# EAGLE library part BLUE2 (library JoesCustom)
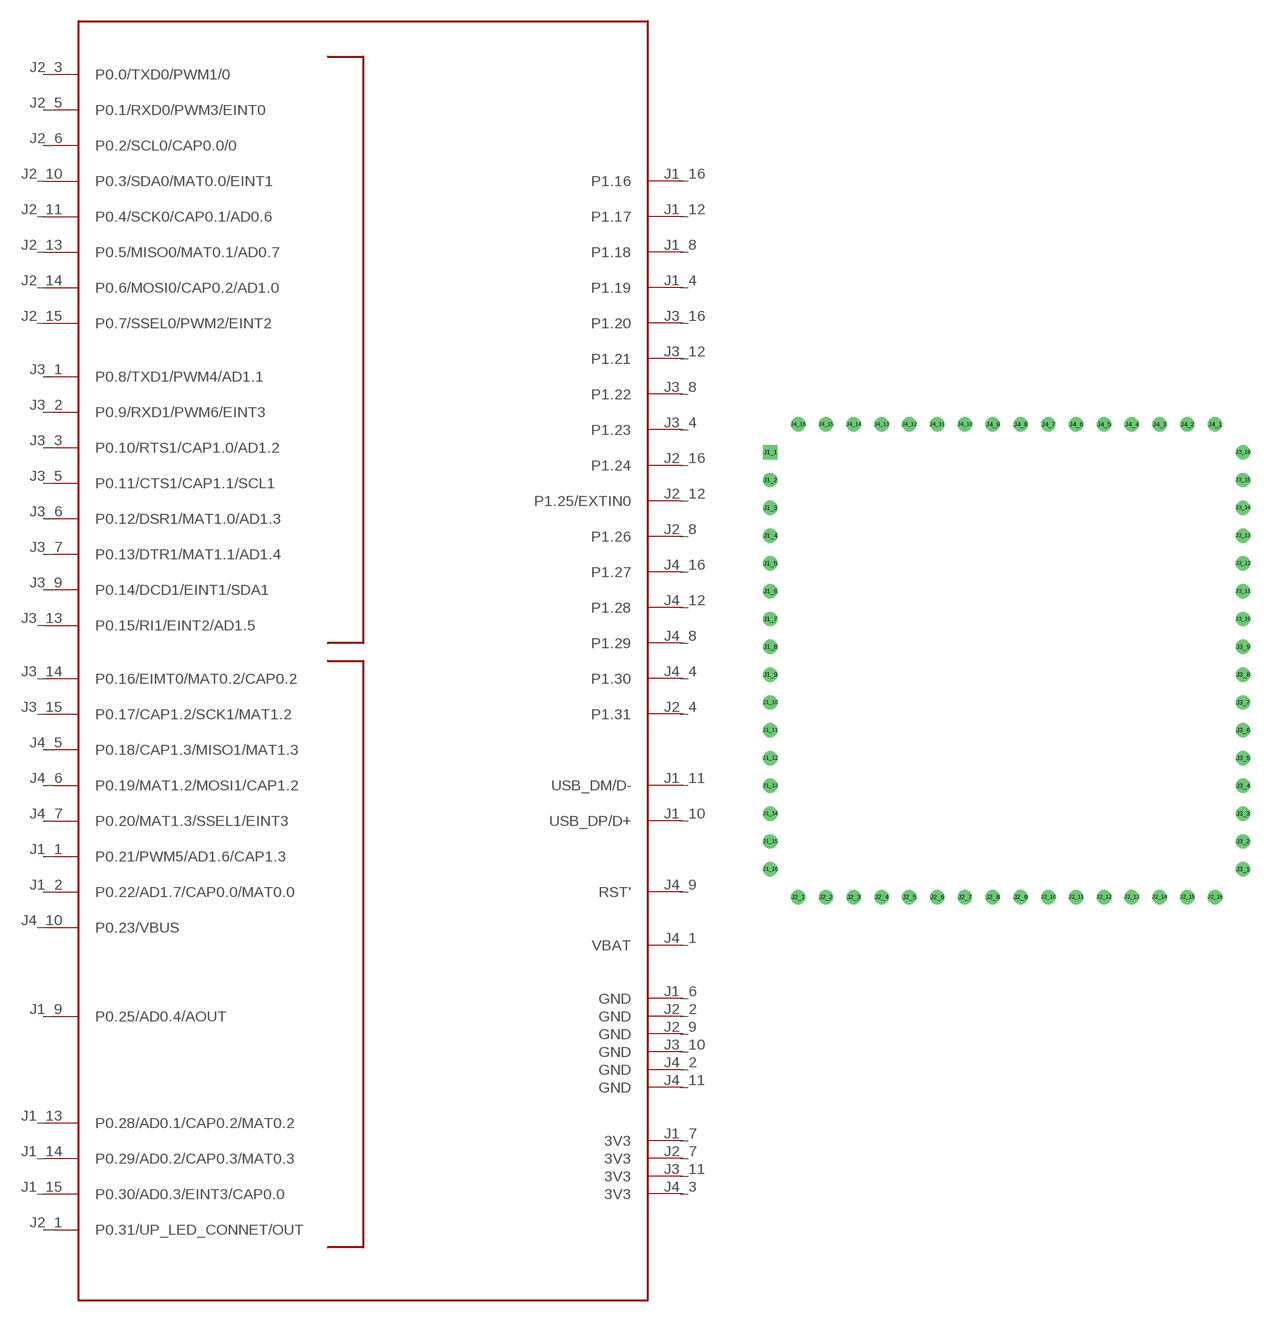
[diagram p2: symbol with the pads of BLUEBOARD_BREAKOUT; footprint BLUEBOARD_BREAKOUT]

Designator prefix -

## BLUE2  [BLUEBOARD_BREAKOUT]
J1_1  P0.21/PWM5/AD1.6/CAP1.3
J1_2  P0.22/AD1.7/CAP0.0/MAT0.0
J1_4  P1.19
J1_6  GND
J1_7  3V3
J1_8  P1.18
J1_9  P0.25/AD0.4/AOUT
J1_10  USB_DP/D+
J1_11  USB_DM/D-
J1_12  P1.17
J1_13  P0.28/AD0.1/CAP0.2/MAT0.2
J1_14  P0.29/AD0.2/CAP0.3/MAT0.3
J1_15  P0.30/AD0.3/EINT3/CAP0.0
J1_16  P1.16
J2_1  P0.31/UP_LED_CONNET/OUT
J2_2  GND
J2_3  P0.0/TXD0/PWM1/0
J2_4  P1.31
J2_5  P0.1/RXD0/PWM3/EINT0
J2_6  P0.2/SCL0/CAP0.0/0
J2_7  3V3
J2_8  P1.26
J2_9  GND
J2_10  P0.3/SDA0/MAT0.0/EINT1
J2_11  P0.4/SCK0/CAP0.1/AD0.6
J2_12  P1.25/EXTIN0
J2_13  P0.5/MISO0/MAT0.1/AD0.7
J2_14  P0.6/MOSI0/CAP0.2/AD1.0
J2_15  P0.7/SSEL0/PWM2/EINT2
J2_16  P1.24
J3_1  P0.8/TXD1/PWM4/AD1.1
J3_2  P0.9/RXD1/PWM6/EINT3
J3_3  P0.10/RTS1/CAP1.0/AD1.2
J3_4  P1.23
J3_5  P0.11/CTS1/CAP1.1/SCL1
J3_6  P0.12/DSR1/MAT1.0/AD1.3
J3_7  P0.13/DTR1/MAT1.1/AD1.4
J3_8  P1.22
J3_9  P0.14/DCD1/EINT1/SDA1
J3_10  GND
J3_11  3V3
J3_12  P1.21
J3_13  P0.15/RI1/EINT2/AD1.5
J3_14  P0.16/EIMT0/MAT0.2/CAP0.2
J3_15  P0.17/CAP1.2/SCK1/MAT1.2
J3_16  P1.20
J4_1  VBAT
J4_2  GND
J4_3  3V3
J4_4  P1.30
J4_5  P0.18/CAP1.3/MISO1/MAT1.3
J4_6  P0.19/MAT1.2/MOSI1/CAP1.2
J4_7  P0.20/MAT1.3/SSEL1/EINT3
J4_8  P1.29
J4_9  RST'
J4_10  P0.23/VBUS
J4_11  GND
J4_12  P1.28
J4_16  P1.27

## Footprint BLUEBOARD_BREAKOUT (pad centres in mm)
drill 0.8 square: J1_1 -21.59,19.05
drill 0.8 round: J1_2 -21.59,16.51; J1_3 -21.59,13.97; J1_4 -21.59,11.43; J1_5 -21.59,8.89; J1_6 -21.59,6.35; J1_7 -21.59,3.81; J1_8 -21.59,1.27; J1_9 -21.59,-1.27; J1_10 -21.59,-3.81; J1_11 -21.59,-6.35; J1_12 -21.59,-8.89; J1_13 -21.59,-11.43; J1_14 -21.59,-13.97; J1_15 -21.59,-16.51; J1_16 -21.59,-19.05; J2_1 -19.05,-21.59; J2_2 -16.51,-21.59; J2_3 -13.97,-21.59; J2_4 -11.43,-21.59; J2_5 -8.89,-21.59; J2_6 -6.35,-21.59; J2_7 -3.81,-21.59; J2_8 -1.27,-21.59; J2_9 1.27,-21.59; J2_10 3.81,-21.59; J2_11 6.35,-21.59; J2_12 8.89,-21.59; J2_13 11.43,-21.59; J2_14 13.97,-21.59; J2_15 16.51,-21.59; J2_16 19.05,-21.59; J3_1 21.59,-19.05; J3_2 21.59,-16.51; J3_3 21.59,-13.97; J3_4 21.59,-11.43; J3_5 21.59,-8.89; J3_6 21.59,-6.35; J3_7 21.59,-3.81; J3_8 21.59,-1.27; J3_9 21.59,1.27; J3_10 21.59,3.81; J3_11 21.59,6.35; J3_12 21.59,8.89; J3_13 21.59,11.43; J3_14 21.59,13.97; J3_15 21.59,16.51; J3_16 21.59,19.05; J4_1 19.05,21.59; J4_2 16.51,21.59; J4_3 13.97,21.59; J4_4 11.43,21.59; J4_5 8.89,21.59; J4_6 6.35,21.59; J4_7 3.81,21.59; J4_8 1.27,21.59; J4_9 -1.27,21.59; J4_10 -3.81,21.59; J4_11 -6.35,21.59; J4_12 -8.89,21.59; J4_13 -11.43,21.59; J4_14 -13.97,21.59; J4_15 -16.51,21.59; J4_16 -19.05,21.59